# EAGLE library part IMU_LSM6DSO (library custom)
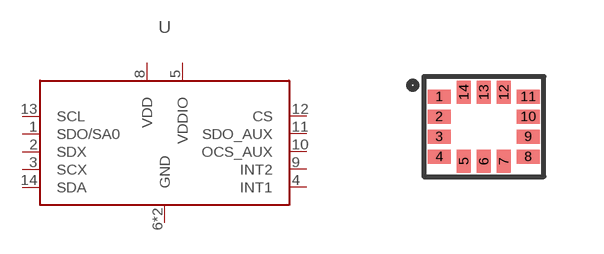
[diagram p0: symbol with the pads of IMU_LSM6DSO; footprint IMU_LSM6DSO]

Designator prefix U

## IMU_LSM6DSO-LSM6DSO (CREATOR: N JOBE; DIST: Digikey; DISTPN: 497-18367-1-ND)  [IMU_LSM6DSO]
1  SDO/SA0
2  SDX
3  SCX
4  INT1
5  VDDIO
6  GND
7  GND
8  VDD
9  INT2
10  OCS_AUX
11  SDO_AUX
12  CS
13  SCL
14  SDA

## Footprint IMU_LSM6DSO (pad centres in mm)
smd 0.575 x 0.35: 1 -1.113,0.85; 2 -1.113,0.35; 3 -1.113,-0.15; 4 -1.113,-0.65; 8 1.113,-0.65; 9 1.113,-0.15; 10 1.113,0.35; 11 1.113,0.85
smd 0.35 x 0.575: 5 -0.5,-0.762; 6 0,-0.762; 7 0.5,-0.762; 12 0.5,0.963; 13 0,0.963; 14 -0.5,0.963